# Altium schematic symbol library RT4812GJ8F.SchLib: 1 symbol
Pins are listed as number, name and electrical type; pins without a type are passive.

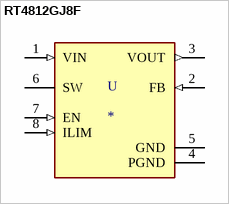
[diagram p0: symbol RT4812GJ8F]

## RT4812GJ8F
designator U
Boost Switching Regulator IC Positive Adjustable 1.8V 1 Output 2A SOT-23-8 Thin, TSOT-23-8; MF: Richtek USA; MP: RT4812GJ8F; Value: *; Availability: Unavailable; Price: None; SnapEDA_Link: https://www.snapeda.com/parts/RT4812GJ8F/Richtek%20USA%20Inc./view-part/699858/?ref=snap; DigiKey-Purchase-URL: https://snapeda.com/shop?store=DigiKey&id=699858; Package: TSOT-23 Richtek
footprint SOT65P279X100-8N
pins: 1 VIN (in), 2 FB (in), 3 VOUT (out), 4 PGND (power), 5 GND (power), 6 SW, 7 EN (in), 8 ILIM (in)